# EAGLE library part OPA210IDGKR (library OPA210IDGKR)
Operational Amplifiers - Op Amps 2.2-nV/vHz, low-power, 36-V operational amplifier Source: Datasheet
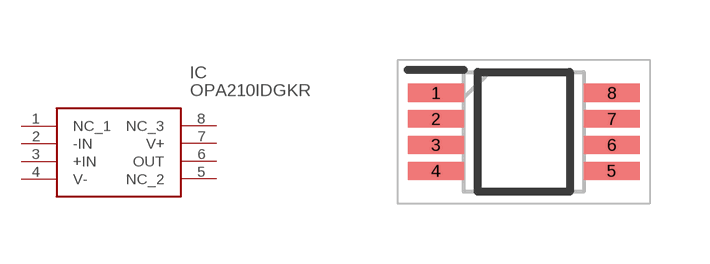
[diagram p0: symbol with the pads of SOP65P490X110-8N; footprint SOP65P490X110-8N]

Designator prefix IC

## OPA210IDGKR (Description: Operational Amplifiers - Op Amps 2.2-nV/vHz, low-power, 36-V operational amplifier; Height: 1.1mm; Manufacturer_Name: Texas Instruments; Manufacturer_Part_Number: OPA210IDGKR; Mouser_Part_Number: 595-OPA210IDGKR; Mouser_Price-Stock: https://www.mouser.co.uk/ProductDetail/Texas-Instruments/OPA210IDGKR?qs=pBJMDPsKWf235pNNdDlWqg%3D%3D)  [SOP65P490X110-8N]
1  NC_1
2  -IN
3  +IN
4  V-
5  NC_2
6  OUT
7  V+
8  NC_3

## Footprint SOP65P490X110-8N (pad centres in mm)
DGK (S-PDSO-G8)
smd 1.4 x 0.45: 1 -2.2,0.975; 2 -2.2,0.325; 3 -2.2,-0.325; 4 -2.2,-0.975; 5 2.2,-0.975; 6 2.2,-0.325; 7 2.2,0.325; 8 2.2,0.975